# EAGLE library part AD5175 (library Public)
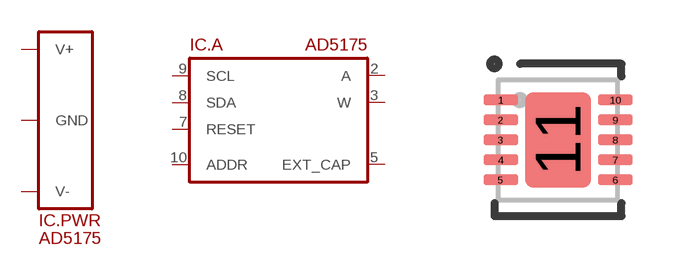
[diagram p151: symbol with the pads of LFCSP-10; footprint LFCSP-10]

Designator prefix IC; gates .PWR=SUPPLY_V+/GND/V- .A=AD5175

## AD5175  [LFCSP-10]
1  .PWR:V+
2  .A:A
3  .A:W
4  .PWR:V-
5  .A:EXT_CAP
6  .PWR:GND
7  .A:RESET
8  .A:SDA
9  .A:SCL
10  .A:ADDR
11  .PWR:V-

## Footprint LFCSP-10 (pad centres in mm)
smd 0.86 x 0.27: 1 -1.435,1; 2 -1.435,0.5; 3 -1.435,0; 4 -1.435,-0.5; 5 -1.435,-1; 6 1.435,-1; 7 1.435,-0.5; 8 1.435,0; 9 1.435,0.5; 10 1.435,1
smd 1.64 x 2.38: 11 0,0